# Altium schematic symbol library 0603ZD106KAT2A.SchLib: 1 symbol
Pins are listed as number, name and electrical type; pins without a type are passive.

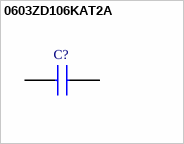
[diagram p0: symbol 0603ZD106KAT2A]

## 0603ZD106KAT2A
designator C?
Multilayer Ceramic Capacitors MLCC - SMD/SMT 10V 10uF X5R 0603 10%TOL; Manufacturer_Name: AVX; Geometry.Height: 0.9mm; Mouser Part Number: 581-0603ZD106KAT2A; Mouser Price/Stock: https://www.mouser.co.uk/ProductDetail/AVX/0603ZD106KAT2A?qs=c1aAEamvUYHQhwHZOF6y0Q%3D%3D; Manufacturer_Part_Number: 0603ZD106KAT2A; Datasheet Link: https://componentsearchengine.com/Datasheets/1/06031A100FAT2A.pdf
footprint CAPC1608X90N
pins: 1, 2